# EAGLE library part MC34063A (library KIKS)
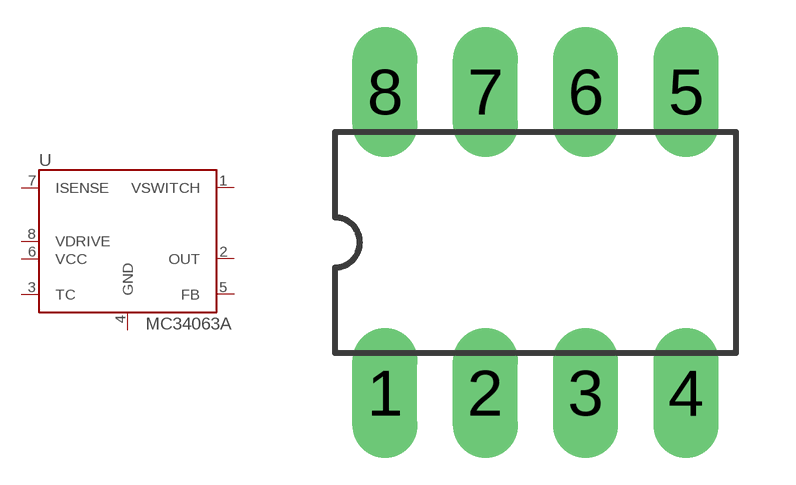
[diagram p0: symbol with the pads of DIP8; footprint DIP8]

Designator prefix U

## MC34063A  [DIP8]
1  VSWITCH
2  OUT
3  TC
4  GND
5  FB
6  VCC
7  ISENSE
8  VDRIVE

## Footprint DIP8 (pad centres in mm)
Dual In Line
drill 1.1 long: 1 -3.81,-3.81; 2 -1.27,-3.81; 3 1.27,-3.81; 4 3.81,-3.81; 5 3.81,3.81; 6 1.27,3.81; 7 -1.27,3.81; 8 -3.81,3.81